# Altium integrated library WS-DISU.intlib: 18 symbols
Pins are listed as number, name and electrical type; pins without a type are passive.

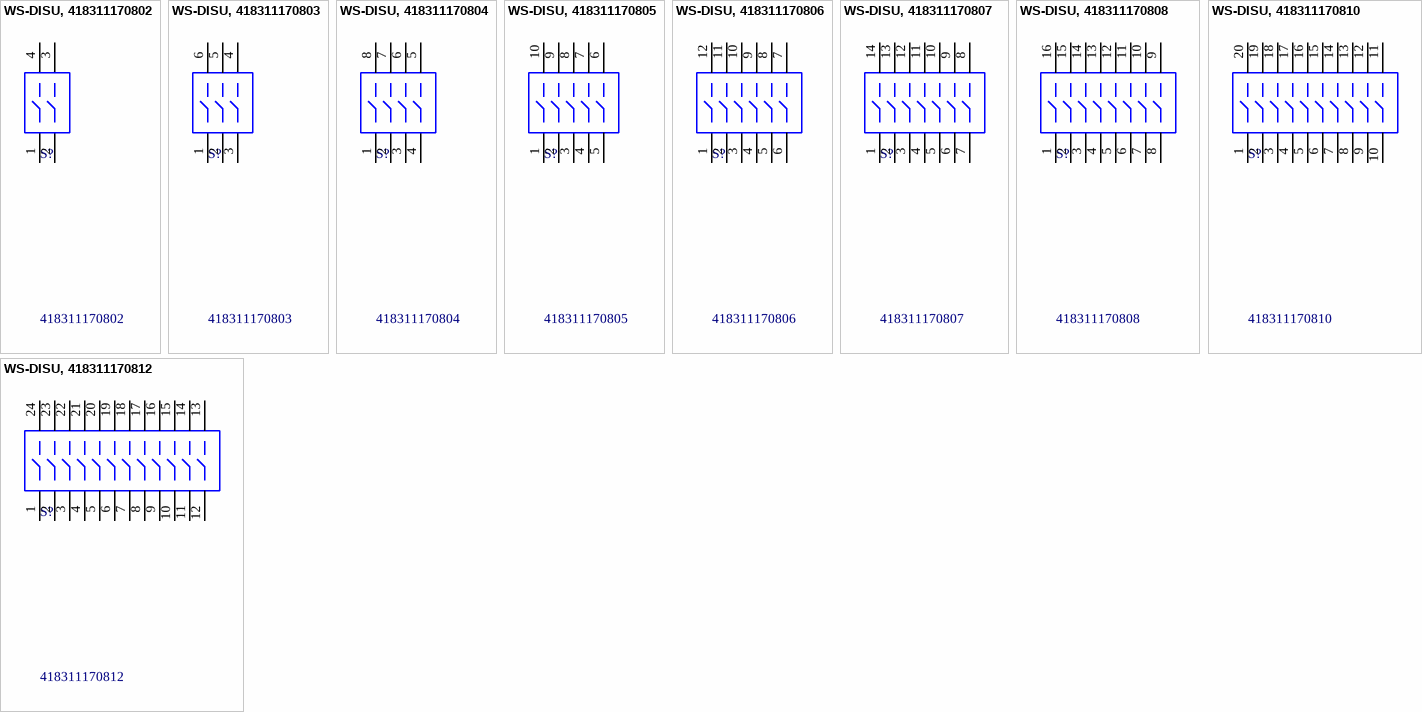
[diagram p0: symbols WS-DISU, 418311170802 to WS-DISU, 418311170812]

## WS-DISU, 418311170802
designator S?, comment 418311170802
WS-DISU 2.54 mm compact SMD piano type with flat actuator; Manufacturer: Wurth Elektronik; ComponentLink1 Description: Manufacturer; ComponentLink2 Description: Datasheet; NoPoles: 2; Created Date: Dec.2015; partNo: 418311170802; ComponentLink1URL: http://www.we-online.com; ComponentLink2URL: http://katalog.we-online.de/em/datasheet/4183111708xx.pdf; Created by: Baojun Chen
footprint 418311170802 (02p, 2.54mm Pitch, Piano, Box Type SMT, flat Actuator, black, without Tape, T&R)
pins: 1, 2, 3, 4

## WS-DISU, 418311170803
designator S?, comment 418311170803
WS-DISU 2.54 mm compact SMD piano type with flat actuator; Manufacturer: Wurth Elektronik; ComponentLink1 Description: Manufacturer; ComponentLink2 Description: Datasheet; NoPoles: 3; Created Date: Dec.2015; partNo: 418311170803; ComponentLink1URL: http://www.we-online.com; ComponentLink2URL: http://katalog.we-online.de/em/datasheet/4183111708xx.pdf; Created by: Baojun Chen
footprint 418311170803 (03p, 2.54mm Pitch, Piano, Box Type SMT, flat Actuator, black, without Tape, T&R)
pins: 1, 2, 3, 4, 5, 6

## WS-DISU, 418311170804
designator S?, comment 418311170804
WS-DISU 2.54 mm compact SMD piano type with flat actuator; Manufacturer: Wurth Elektronik; ComponentLink1 Description: Manufacturer; ComponentLink2 Description: Datasheet; NoPoles: 4; Created Date: Dec.2015; partNo: 418311170804; ComponentLink1URL: http://www.we-online.com; ComponentLink2URL: http://katalog.we-online.de/em/datasheet/4183111708xx.pdf; Created by: Baojun Chen
footprint 418311170804 (04p, 2.54mm Pitch, Piano, Box Type SMT, flat Actuator, black, without Tape, T&R)
pins: 1, 2, 3, 4, 5, 6, 7, 8

## WS-DISU, 418311170805
designator S?, comment 418311170805
WS-DISU 2.54 mm compact SMD piano type with flat actuator; Manufacturer: Wurth Elektronik; ComponentLink1 Description: Manufacturer; ComponentLink2 Description: Datasheet; NoPoles: 5; Created Date: Dec.2015; partNo: 418311170805; ComponentLink1URL: http://www.we-online.com; ComponentLink2URL: http://katalog.we-online.de/em/datasheet/4183111708xx.pdf; Created by: Baojun Chen
footprint 418311170805 (05p, 2.54mm Pitch, Piano, Box Type SMT, flat Actuator, black, without Tape, T&R)
pins: 1, 2, 3, 4, 5, 6, 7, 8, 9, 10

## WS-DISU, 418311170806
designator S?, comment 418311170806
WS-DISU 2.54 mm compact SMD piano type with flat actuator; Manufacturer: Wurth Elektronik; ComponentLink1 Description: Manufacturer; ComponentLink2 Description: Datasheet; NoPoles: 6; Created Date: Dec.2015; partNo: 418311170806; ComponentLink1URL: http://www.we-online.com; ComponentLink2URL: http://katalog.we-online.de/em/datasheet/4183111708xx.pdf; Created by: Baojun Chen
footprint 418311170806 (06p, 2.54mm Pitch, Piano, Box Type SMT, flat Actuator, black, without Tape, T&R)
pins: 1, 2, 3, 4, 5, 6, 7, 8, 9, 10, 11, 12

## WS-DISU, 418311170807
designator S?, comment 418311170807
WS-DISU 2.54 mm compact SMD piano type with flat actuator; Manufacturer: Wurth Elektronik; ComponentLink1 Description: Manufacturer; ComponentLink2 Description: Datasheet; NoPoles: 7; Created Date: Dec.2015; partNo: 418311170807; ComponentLink1URL: http://www.we-online.com; ComponentLink2URL: http://katalog.we-online.de/em/datasheet/4183111708xx.pdf; Created by: Baojun Chen
footprint 418311170807 (07p, 2.54mm Pitch, Piano, Box Type SMT, flat Actuator, black, without Tape, T&R)
pins: 1, 2, 3, 4, 5, 6, 7, 8, 9, 10, 11, 12, 13, 14

## WS-DISU, 418311170808
designator S?, comment 418311170808
WS-DISU 2.54 mm compact SMD piano type with flat actuator; Manufacturer: Wurth Elektronik; ComponentLink1 Description: Manufacturer; ComponentLink2 Description: Datasheet; NoPoles: 8; Created Date: Dec.2015; partNo: 418311170808; ComponentLink1URL: http://www.we-online.com; ComponentLink2URL: http://katalog.we-online.de/em/datasheet/4183111708xx.pdf; Created by: Baojun Chen
footprint 418311170808 (08p, 2.54mm Pitch, Piano, Box Type SMT, flat Actuator, black, without Tape, T&R)
pins: 1, 2, 3, 4, 5, 6, 7, 8, 9, 10, 11, 12, 13, 14, 15, 16

## WS-DISU, 418311170810
designator S?, comment 418311170810
WS-DISU 2.54 mm compact SMD piano type with flat actuator; Manufacturer: Wurth Elektronik; ComponentLink1 Description: Manufacturer; ComponentLink2 Description: Datasheet; NoPoles: 10; Created Date: Dec.2015; partNo: 418311170810; ComponentLink1URL: http://www.we-online.com; ComponentLink2URL: http://katalog.we-online.de/em/datasheet/4183111708xx.pdf; Created by: Baojun Chen
footprint 418311170810 (10p, 2.54mm Pitch, Piano, Box Type SMT, flat Actuator, black, without Tape, T&R)
pins: 1, 2, 3, 4, 5, 6, 7, 8, 9, 10, 11, 12, 13, 14, 15, 16, 17, 18, 19, 20

## WS-DISU, 418311170812
designator S?, comment 418311170812
WS-DISU 2.54 mm compact SMD piano type with flat actuator; Manufacturer: Wurth Elektronik; ComponentLink1 Description: Manufacturer; ComponentLink2 Description: Datasheet; NoPoles: 12; Created Date: Dec.2015; partNo: 418311170812; ComponentLink1URL: http://www.we-online.com; ComponentLink2URL: http://katalog.we-online.de/em/datasheet/4183111708xx.pdf; Created by: Baojun Chen
footprint 418311170812 (12p, 2.54mm Pitch, Piano, Box Type SMT, flat Actuator, black, without Tape, T&R)
pins: 1, 2, 3, 4, 5, 6, 7, 8, 9, 10, 11, 12, 13, 14, 15, 16, 17, 18, 19, 20, 21, 22, 23, 24


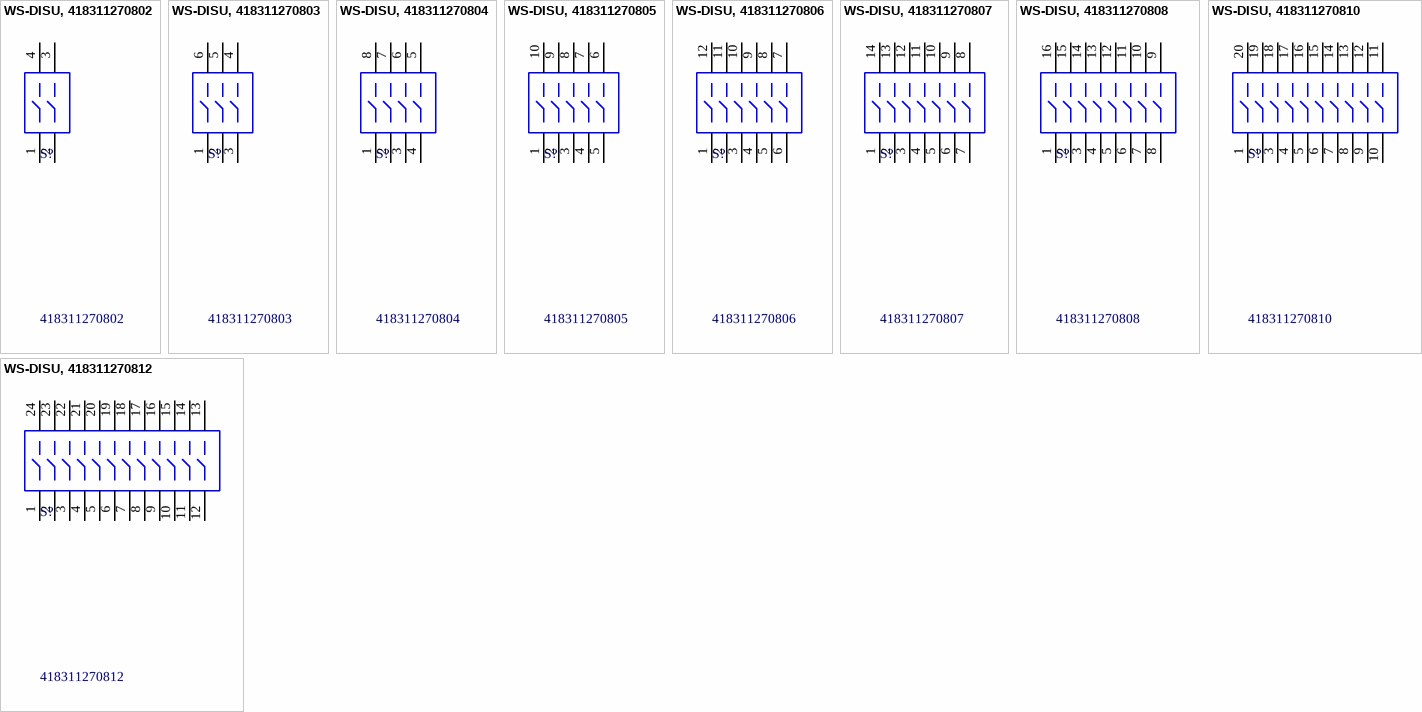
[diagram p1: symbols WS-DISU, 418311270802 to WS-DISU, 418311270812]

## WS-DISU, 418311270802
designator S?, comment 418311270802
WS-DISU 2.54 mm compact SMD piano type with raised actuator; Manufacturer: Wurth Elektronik; ComponentLink1 Description: Manufacturer; ComponentLink2 Description: Datasheet; NoPoles: 2; Created Date: Dec.2015; partNo: 418311270802; ComponentLink1URL: http://www.we-online.com; ComponentLink2URL: http://katalog.we-online.de/em/datasheet/4183112708xx.pdf; Created by: Baojun Chen
footprint 418311270802 (02p, 2.54mm Pitch, Piano, Box Type SMT, raised Actuator, black, without Tape, T&R)
pins: 1, 2, 3, 4

## WS-DISU, 418311270803
designator S?, comment 418311270803
WS-DISU 2.54 mm compact SMD piano type with raised actuator; Manufacturer: Wurth Elektronik; ComponentLink1 Description: Manufacturer; ComponentLink2 Description: Datasheet; NoPoles: 3; Created Date: Dec.2015; partNo: 418311270803; ComponentLink1URL: http://www.we-online.com; ComponentLink2URL: http://katalog.we-online.de/em/datasheet/4183112708xx.pdf; Created by: Baojun Chen
footprint 418311270803 (03p, 2.54mm Pitch, Piano, Box Type SMT, raised Actuator, black, without Tape, T&R)
pins: 1, 2, 3, 4, 5, 6

## WS-DISU, 418311270804
designator S?, comment 418311270804
WS-DISU 2.54 mm compact SMD piano type with raised actuator; Manufacturer: Wurth Elektronik; ComponentLink1 Description: Manufacturer; ComponentLink2 Description: Datasheet; NoPoles: 4; Created Date: Dec.2015; partNo: 418311270804; ComponentLink1URL: http://www.we-online.com; ComponentLink2URL: http://katalog.we-online.de/em/datasheet/4183112708xx.pdf; Created by: Baojun Chen
footprint 418311270804 (04p, 2.54mm Pitch, Piano, Box Type SMT, raised Actuator, black, without Tape, T&R)
pins: 1, 2, 3, 4, 5, 6, 7, 8

## WS-DISU, 418311270805
designator S?, comment 418311270805
WS-DISU 2.54 mm compact SMD piano type with raised actuator; Manufacturer: Wurth Elektronik; ComponentLink1 Description: Manufacturer; ComponentLink2 Description: Datasheet; NoPoles: 5; Created Date: Dec.2015; partNo: 418311270805; ComponentLink1URL: http://www.we-online.com; ComponentLink2URL: http://katalog.we-online.de/em/datasheet/4183112708xx.pdf; Created by: Baojun Chen
footprint 418311270805 (05p, 2.54mm Pitch, Piano, Box Type SMT, raised Actuator, black, without Tape, T&R)
pins: 1, 2, 3, 4, 5, 6, 7, 8, 9, 10

## WS-DISU, 418311270806
designator S?, comment 418311270806
WS-DISU 2.54 mm compact SMD piano type with raised actuator; Manufacturer: Wurth Elektronik; ComponentLink1 Description: Manufacturer; ComponentLink2 Description: Datasheet; NoPoles: 6; Created Date: Dec.2015; partNo: 418311270806; ComponentLink1URL: http://www.we-online.com; ComponentLink2URL: http://katalog.we-online.de/em/datasheet/4183112708xx.pdf; Created by: Baojun Chen
footprint 418311270806 (06p, 2.54mm Pitch, Piano, Box Type SMT, raised Actuator, black, without Tape, T&R)
pins: 1, 2, 3, 4, 5, 6, 7, 8, 9, 10, 11, 12

## WS-DISU, 418311270807
designator S?, comment 418311270807
WS-DISU 2.54 mm compact SMD piano type with raised actuator; Manufacturer: Wurth Elektronik; ComponentLink1 Description: Manufacturer; ComponentLink2 Description: Datasheet; NoPoles: 7; Created Date: Dec.2015; partNo: 418311270807; ComponentLink1URL: http://www.we-online.com; ComponentLink2URL: http://katalog.we-online.de/em/datasheet/4183112708xx.pdf; Created by: Baojun Chen
footprint 418311270807 (07p, 2.54mm Pitch, Piano, Box Type SMT, raised Actuator, black, without Tape, T&R)
pins: 1, 2, 3, 4, 5, 6, 7, 8, 9, 10, 11, 12, 13, 14

## WS-DISU, 418311270808
designator S?, comment 418311270808
WS-DISU 2.54 mm compact SMD piano type with raised actuator; Manufacturer: Wurth Elektronik; ComponentLink1 Description: Manufacturer; ComponentLink2 Description: Datasheet; NoPoles: 8; Created Date: Dec.2015; partNo: 418311270808; ComponentLink1URL: http://www.we-online.com; ComponentLink2URL: http://katalog.we-online.de/em/datasheet/4183112708xx.pdf; Created by: Baojun Chen
footprint 418311270808 (08p, 2.54mm Pitch, Piano, Box Type SMT, raised Actuator, black, without Tape, T&R)
pins: 1, 2, 3, 4, 5, 6, 7, 8, 9, 10, 11, 12, 13, 14, 15, 16

## WS-DISU, 418311270810
designator S?, comment 418311270810
WS-DISU 2.54 mm compact SMD piano type with raised actuator; Manufacturer: Wurth Elektronik; ComponentLink1 Description: Manufacturer; ComponentLink2 Description: Datasheet; NoPoles: 10; Created Date: Dec.2015; partNo: 418311270810; ComponentLink1URL: http://www.we-online.com; ComponentLink2URL: http://katalog.we-online.de/em/datasheet/4183112708xx.pdf; Created by: Baojun Chen
footprint 418311270810 (10p, 2.54mm Pitch, Piano, Box Type SMT, raised Actuator, black, without Tape, T&R)
pins: 1, 2, 3, 4, 5, 6, 7, 8, 9, 10, 11, 12, 13, 14, 15, 16, 17, 18, 19, 20

## WS-DISU, 418311270812
designator S?, comment 418311270812
WS-DISU 2.54 mm compact SMD piano type with raised actuator; Manufacturer: Wurth Elektronik; ComponentLink1 Description: Manufacturer; ComponentLink2 Description: Datasheet; NoPoles: 12; Created Date: Dec.2015; partNo: 418311270812; ComponentLink1URL: http://www.we-online.com; ComponentLink2URL: http://katalog.we-online.de/em/datasheet/4183112708xx.pdf; Created by: Baojun Chen
footprint 418311270812 (12p, 2.54mm Pitch, Piano, Box Type SMT, raised Actuator, black, without Tape, T&R)
pins: 1, 2, 3, 4, 5, 6, 7, 8, 9, 10, 11, 12, 13, 14, 15, 16, 17, 18, 19, 20, 21, 22, 23, 24